# Altium integrated library GRM31CB31E106KA75L_new.IntLib: 1 symbol
Pins are listed as number, name and electrical type; pins without a type are passive.

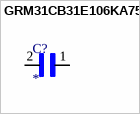
[diagram p0: symbol GRM31CB31E106KA75L]

## GRM31CB31E106KA75L
designator C?
Cap Ceramic 10uF 25V B 10% Pad SMD 1206 85Â°C T/R; MP: GRM31CB31E106KA75L; Package: None; Price: None; Value: *; Availability: Unavailable
footprint CAPC3216X190
footprint CAPC3216X190
pins: 1, 2